# Altium footprint library PcbLib1.PcbLib: 19 footprints (part 2 of 2)
Each footprint in its own frame and in the unit in brackets; x right, y up, seen from the top. Pads: shape width x height; smd on the part's side, far side on the other; paste and mask are expansions set on the pad; w line width, h text height; cw(c..) or ccw(c..) is an arc to the next point about the centre after c.
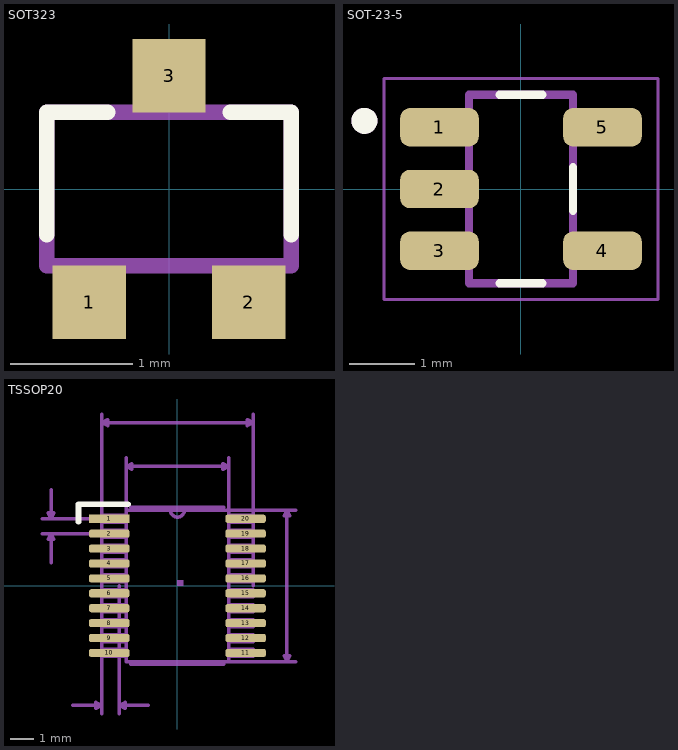
[diagram p1: the footprints below, top view; thin cyan lines are the x and y axes]

## SOT323 [mm]
pads (3):
  rect 0.6x0.6 smd: 1(-0.65,-0.925) 2(0.65,-0.925) 3(0,0.925)
Top Overlay:
  lines w0.127: -1,-0.375 -1,0.625 -0.5,0.625 ; 0.5,0.625 1,0.625 1,-0.375
3D Top:
  region: 0.15,0.576 -0.15,0.576 -0.15,0.975 0.15,0.975
  region: -0.5,-0.977 -0.801,-0.977 -0.801,-0.575 -0.5,-0.575
  region: 0.8,-0.976 0.501,-0.976 0.501,-0.575 0.8,-0.575
  lines w0.127: -1,-0.625 -1,0.625 1,0.625 1,-0.625 -1,-0.625
3D body: height 1.13, standoff 0.03, extent -1,-1.05 1,1.05

## SOT-23-5 [mm]
pads (5):
  rrect50% 1.21x0.59 smd: 1(-1.255,0.95) 2(-1.255,0) 3(-1.255,-0.95) 4(1.255,-0.95) 5(1.255,0.95)
Top Overlay:
  circle w0.2: c-2.41,1.05 r0.1
  lines w0.127: -0.33,-1.45 0.33,-1.45 ; -0.33,1.45 0.33,1.45 ; 0.8,-0.335 0.8,0.335
3D Top:
  circle w0.2: c-2.41,1.05 r0.1
  lines w0.127: -0.8,-1.45 -0.8,1.45 0.8,1.45 0.8,-1.45 -0.8,-1.45
Courtyard Top:
  lines w0.05: -2.11,-1.7 2.11,-1.7 2.11,1.7 -2.11,1.7 -2.11,-1.7
3D body: height 1.45, standoff 0, extent -1.375,-1.45 1.426,1.45

## TSSOP20 [mm]
pads (20):
  rect 1.762x0.355 smd: 1(-2.971,2.925)
  rrect50% 1.762x0.355 smd: 2(-2.971,2.275) 3(-2.971,1.625) 4(-2.971,0.975) 5(-2.971,0.325) 6(-2.971,-0.325) 7(-2.971,-0.975) 8(-2.971,-1.625) 9(-2.971,-2.275) 10(-2.971,-2.925) 11(2.971,-2.925) 12(2.971,-2.275) 13(2.971,-1.625) 14(2.971,-0.975) 15(2.971,-0.325) 16(2.971,0.325) 17(2.971,0.975) 18(2.971,1.625) 19(2.971,2.275) 20(2.971,2.925)
Top Overlay:
  lines w0.254: -4.318,2.794 -4.318,3.556 -4.191,3.556 -2.159,3.556
Assembly Top:
  lines w0.152: -0.305,3.302 ccw(c0,3.302) 0.305,3.302 ; -3.302,-3.077 -3.302,-2.773 -2.235,-2.773 -2.235,-3.077 -3.302,-3.077 ; -3.302,-2.427 -3.302,-2.123 -2.235,-2.123 -2.235,-2.427 -3.302,-2.427 ; -3.302,-1.777 -3.302,-1.473 -2.235,-1.473 -2.235,-1.777 -3.302,-1.777 ; -3.302,-1.128 -3.302,-0.823 -2.235,-0.823 -2.235,-1.128 -3.302,-1.128 ; -3.302,-0.478 -3.302,-0.173 -2.235,-0.173 -2.235,-0.478 -3.302,-0.478 ; -3.302,0.173 -3.302,0.478 -2.235,0.478 -2.235,0.173 -3.302,0.173 ; -3.302,0.823 -3.302,1.128 -2.235,1.128 -2.235,0.823 -3.302,0.823 ; -3.302,1.473 -3.302,1.777 -2.235,1.777 -2.235,1.473 -3.302,1.473 ; -3.302,2.123 -3.302,2.427 -2.235,2.427 -2.235,2.123 -3.302,2.123 ; -3.302,2.773 -3.302,3.077 -2.235,3.077 -2.235,2.773 -3.302,2.773 ; -2.235,-3.302 2.235,-3.302 2.235,3.302 -2.235,3.302 -2.235,-3.302 ; 2.235,-3.077 2.235,-2.773 3.302,-2.773 3.302,-3.077 2.235,-3.077 ; 2.235,-2.427 2.235,-2.123 3.302,-2.123 3.302,-2.427 2.235,-2.427 ; 2.235,-1.777 2.235,-1.473 3.302,-1.473 3.302,-1.777 2.235,-1.777 ; 2.235,-1.128 2.235,-0.823 3.302,-0.823 3.302,-1.128 2.235,-1.128 ; 2.235,-0.478 2.235,-0.173 3.302,-0.173 3.302,-0.478 2.235,-0.478 ; 2.235,0.173 2.235,0.478 3.302,0.478 3.302,0.173 2.235,0.173 ; 2.235,0.823 2.235,1.128 3.302,1.128 3.302,0.823 2.235,0.823 ; 2.235,1.473 2.235,1.777 3.302,1.777 3.302,1.473 2.235,1.473 ; 2.235,2.123 2.235,2.427 3.302,2.427 3.302,2.123 2.235,2.123 ; 2.235,2.773 2.235,3.077 3.302,3.077 3.302,2.773 2.235,2.773
Mechanical 22:
  region: 0,0 0.254,0 0.254,0.254 0,0.254
  region: 0,0 0.254,0 0.254,0.254 0,0.254
  lines w0.152: -2.026,-3.429 2.026,-3.429 ; -2.026,3.429 2.026,3.429
Mechanical 34:
  lines w0.152: -5.892,2.275 -2.971,2.275 ; -5.892,2.925 -2.971,2.925 ; -5.511,1.005 -5.511,2.275 ; -5.511,4.195 -5.511,2.925 ; -4.572,-5.207 -3.302,-5.207 ; -3.302,-5.588 -3.302,0 -3.302,7.493 ; -2.54,-5.588 -2.54,0 ; -2.235,0 -2.235,5.588 ; -1.27,-5.207 -2.54,-5.207 ; 0,-3.302 5.156,-3.302 ; 0,3.302 5.156,3.302 ; 2.235,0 2.235,5.588 ; 3.302,0 3.302,7.493 ; -5.511,2.275 -5.638,2.021 -5.384,2.021 -5.511,2.275 ; -5.511,2.925 -5.638,3.179 -5.384,3.179 -5.511,2.925 ; -3.302,-5.207 -3.556,-5.08 -3.556,-5.334 -3.302,-5.207 ; -3.302,7.112 3.302,7.112 ; -3.302,7.112 -3.048,7.239 -3.048,6.985 -3.302,7.112 ; -2.54,-5.207 -2.286,-5.08 -2.286,-5.334 -2.54,-5.207 ; -2.235,5.207 2.235,5.207 ; -2.235,5.207 -1.981,5.334 -1.981,5.08 -2.235,5.207 ; 2.235,5.207 1.981,5.334 1.981,5.08 2.235,5.207 ; 3.302,7.112 3.048,7.239 3.048,6.985 3.302,7.112 ; 4.775,-3.302 4.775,3.302 ; 4.775,-3.302 4.648,-3.048 4.902,-3.048 4.775,-3.302 ; 4.775,3.302 4.648,3.048 4.902,3.048 4.775,3.302
3D body: height 1.2, standoff 0, extent -3.302,-3.302 3.302,3.302